# Altium footprint library PCB1.PcbLib: 22 footprints (part 2 of 2)
Each footprint in its own frame and in the unit in brackets; x right, y up, seen from the top. Pads: shape width x height; smd on the part's side, far side on the other; paste and mask are expansions set on the pad; w line width, h text height; cw(c..) or ccw(c..) is an arc to the next point about the centre after c.
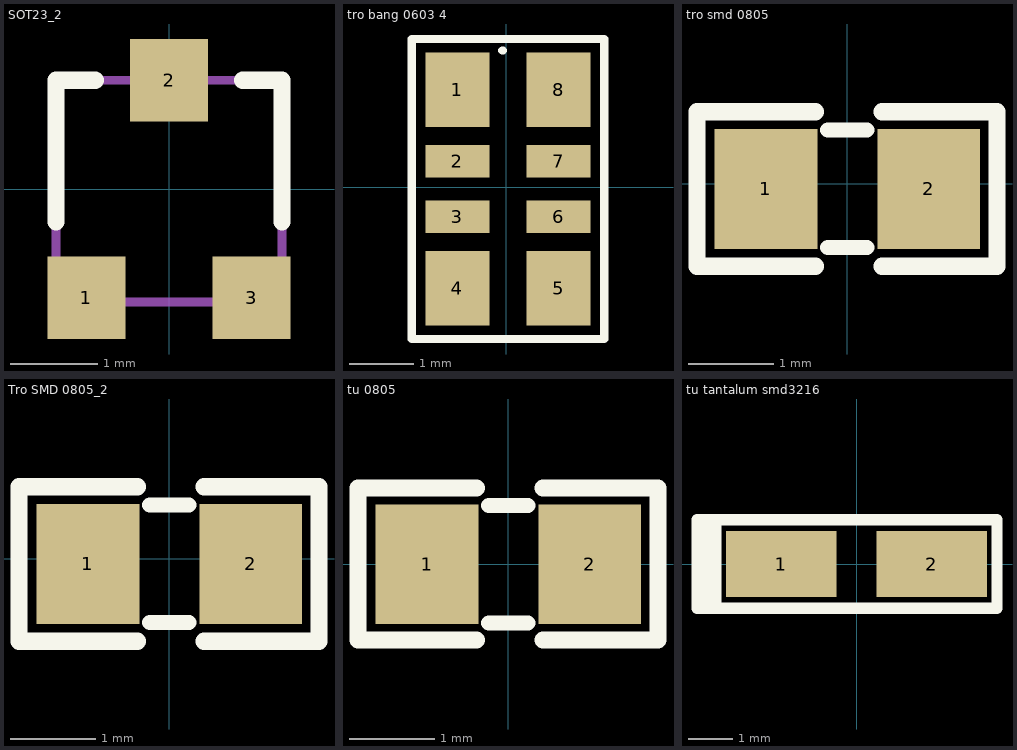
[diagram p1: the footprints below, top view; thin cyan lines are the x and y axes]

## SOT23_2 [mm]
pads (3):
  rect 0.9x0.95 smd: 1(-0.95,-1.25) 2(0,1.25)
  rect 0.9x0.95 smd mask+0: 3(0.95,-1.25)
Top Overlay:
  lines w0.2: -1.3,-0.375 -1.3,1.25 -0.85,1.25 ; 0.85,1.25 1.3,1.25 1.3,-0.375
Mechanical 7:
  region: 1.225,-1.275 0.625,-1.275 0.625,-1.525 1.225,-1.525
  region: -0.625,-1.275 -1.225,-1.275 -1.225,-1.525 -0.625,-1.525
  rectangle: -0.3,1.25 0.3,1.5
  lines w0.1: -1.3,-1.3 1.3,-1.3 1.3,1.25 -1.3,1.25 -1.3,-1.3
  text ".Designator" at -1.2,0.75 h0.7
  text ".Comment" at -1.2,0.325 h0.7
3D body "SW3DPS-SOT-23-DEFAULT.STEP": height 1.06, standoff -0.04, extent -1.524,-1.23 1.476,1.27

## tro bang 0603 4 [mil]
height 300
pads (8):
  rect 39.37x45.67 smd: 1(-30,60) 4(-30,-62) 5(32,-62) 8(32,60)
  rect 39.37x20 smd: 2(-30.06,16.08) 3(-30,-18.08) 6(32.06,-18.08) 7(32.06,16.08)
Top Overlay:
  lines w5: -2.5,84 -2,84 ; -58,-93 60,-93 60,91 -27.25,91 -37.44,91 -47.81,91 -58,91 -58,-93
3D body "Tro bang smd0805.step": height 21.65, standoff 0, extent -29.5,-63.98 33.5,62

## tro smd 0805 [mm]
pads (2):
  rect 1.2x1.4 smd: 1(-0.946,-0.061) 2(0.954,-0.061)
Top Overlay:
  lines w0.178: -0.224,-0.747 0.233,-0.747 ; -0.224,0.625 0.233,0.625
  lines w0.2: -0.367,-0.965 -1.75,-0.965 -1.75,0.838 -0.367,0.838 ; 0.408,-0.965 1.75,-0.965 1.75,0.838 0.408,0.838
3D body "Tro 0805.STEP": height 0.53, standoff 0, extent -1.562,-0.763 1.438,0.637

## Tro SMD 0805_2 [mm]
pads (2):
  rect 1.2x1.4 smd: 1(-0.946,-0.061) 2(0.954,-0.061)
Top Overlay:
  lines w0.178: -0.224,-0.747 0.233,-0.747 ; -0.224,0.625 0.233,0.625
  lines w0.2: -0.367,-0.965 -1.75,-0.965 -1.75,0.838 -0.367,0.838 ; 0.408,-0.965 1.75,-0.965 1.75,0.838 0.408,0.838
3D body "Tro 0805.STEP": height 0.53, standoff 0, extent -1.562,-0.763 1.438,0.637

## tu 0805 [mm] "Compoment SMD 80x50mil"
height 1.27
pads (2):
  rect 1.2x1.4 smd: 1(-0.946,-0.003) 2(0.954,-0.003)
Top Overlay:
  lines w0.178: -0.224,-0.689 0.233,-0.689 ; -0.224,0.682 0.233,0.682
  lines w0.2: -0.367,-0.889 -1.753,-0.889 -1.753,0.889 -0.367,0.889 ; 0.408,-0.889 1.753,-0.889 1.753,0.889 0.408,0.889
3D body "SW3dPS-smt_resistor_packages.STEP": height 0.61, standoff -0.01, extent -1.006,-0.638 1.014,0.632

## tu tantalum smd3216 [mm]
pads (2):
  rect 2.5x1.5 smd: 1(-1.7,0) 2(1.7,0)
Top Overlay:
  lines w0.254: -3.607,-1 -3.607,1 ; -3.556,-1 3.175,-1 3.175,1 -3.556,1 ; -3.378,-1 -3.378,1 ; -3.175,-1 -3.175,1
3D body "CAP_TANT_3216-18.step": height 1.69, standoff -0.01, extent -1.7,-0.9 1.7,0.9